# EAGLE library part 5X2SCREW-TERMINAL (library !Treadmill)
5x2 Screw Terminal Block (Digikey: 277-1359-ND)
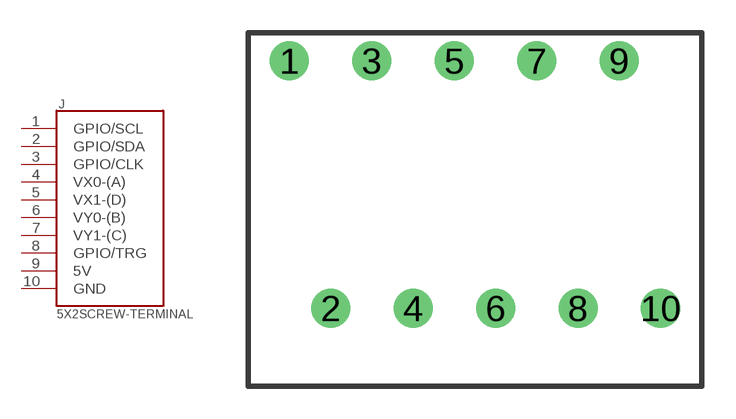
[diagram p3: symbol with the pads of 5X2SCREW-TERMINAL; footprint 5X2SCREW-TERMINAL]

Designator prefix J

## 5X2SCREW-TERMINAL  [5X2SCREW-TERMINAL]
1  GPIO/SCL
2  GPIO/SDA
3  GPIO/CLK
4  VX0-(A)  in
5  VX1-(D)  in
6  VY0-(B)  in
7  VY1-(C)  in
8  GPIO/TRG
9  5V
10  GND

## Footprint 5X2SCREW-TERMINAL (pad centres in mm)
drill 1.2 round: 1 -7.6,0; 2 -5.7,-11.4; 3 -3.8,0; 4 -1.9,-11.4; 5 0,0; 6 1.9,-11.4; 7 3.8,0; 8 5.7,-11.4; 9 7.6,0; 10 9.5,-11.4